# Altium schematic symbol library RES.SchLib: 2 symbols
Pins are listed as number, name and electrical type; pins without a type are passive.

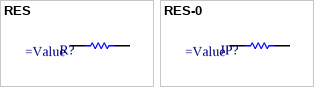
[diagram p0: symbols RES to RES-0]

## RES
designator R?
pins: 1, 2

## RES-0
designator JP?
pins: 1, 2